# Altium footprint library ERA-6AEB101V.PcbLib: 3 footprints
Each footprint in its own frame and in the unit in brackets; x right, y up, seen from the top. Pads: shape width x height; smd on the part's side, far side on the other; paste and mask are expansions set on the pad; w line width, h text height; cw(c..) or ccw(c..) is an arc to the next point about the centre after c.
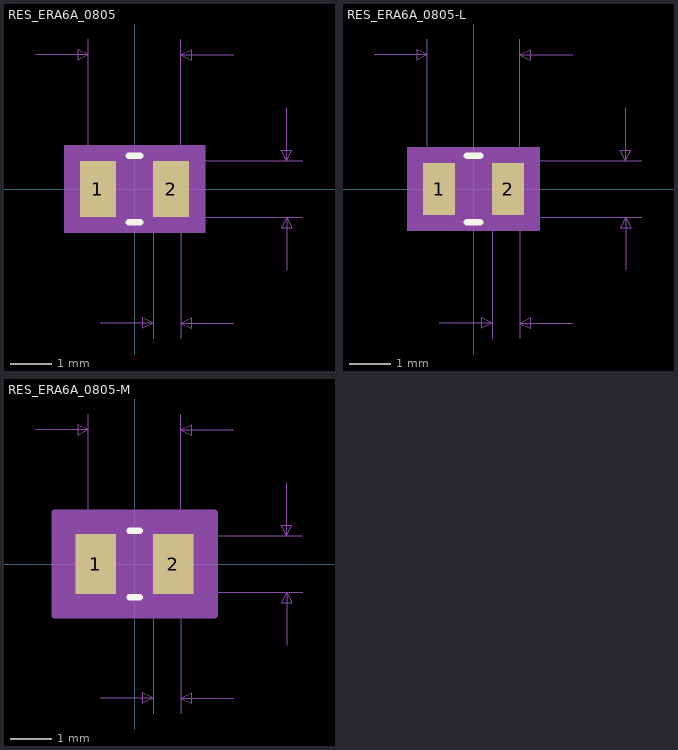
[diagram p0: the footprints below, top view; thin cyan lines are the x and y axes]

## RES_ERA6A_0805 [mil]
pads (2):
  rect 34x53 smd: 1(-34.5,0) 2(34.5,0)
Top Overlay:
  lines w6: -5.39,-31.5 5.39,-31.5 ; -5.39,31.5 5.39,31.5
Mechanical 5:
  region: 66.5,-41.5 -66.5,-41.5 -66.5,41.5 66.5,41.5
Mechanical 7:
  lines w1: -93.5,126.5 -43.5,126.5 ; -43.5,0 -43.5,141.5 ; -32.5,-126.5 17.5,-126.5 ; 0,-26.5 158.5,-26.5 ; 0,26.5 158.5,26.5 ; 17.5,-141.5 17.5,0 ; 43.5,-141.5 43.5,0 43.5,141.5 ; 93.5,-126.5 43.5,-126.5 ; 93.5,126.5 43.5,126.5 ; 143.5,-76.5 143.5,-26.5 ; 143.5,76.5 143.5,26.5 ; -43.5,126.5 -53.5,131.5 -53.5,121.5 -43.5,126.5 ; 17.5,-126.5 7.5,-121.5 7.5,-131.5 17.5,-126.5 ; 43.5,-126.5 53.5,-121.5 53.5,-131.5 43.5,-126.5 ; 43.5,126.5 53.5,131.5 53.5,121.5 43.5,126.5 ; 143.5,-26.5 138.5,-36.5 148.5,-36.5 143.5,-26.5 ; 143.5,26.5 138.5,36.5 148.5,36.5 143.5,26.5
  text "Default Padstyle: RX34Y53D0T" at -350,-296.5 h50
  text "Alt 1 Padstyle: OX60Y90D30P" at -337.5,-356.5 h50
  text "Alt 2 Padstyle: OX90Y60D30P" at -337.5,-416.5 h50
  text "0.053in/1.346mm" at 163.5,-12.5 h25
  text "0.087in/2.21mm" at -87.5,146.5 h25
  text "0.026in/0.66mm" at -57,-171.5 h25
Mechanical 13:
  lines w1: -43.5,-26.5 -43.5,26.5 ; -43.5,-26.5 -17.5,-26.5 -17.5,26.5 -43.5,26.5 ; -43.5,-26.5 43.5,-26.5 ; -43.5,-26.5 -43.5,26.5 ; -43.5,26.5 43.5,26.5 ; 43.5,-26.5 17.5,-26.5 17.5,26.5 43.5,26.5 ; 43.5,-26.5 43.5,26.5 ; 43.5,-26.5 43.5,26.5
Mechanical 15:
  region: 61.5,-36.5 -61.5,-36.5 -61.5,36.5 61.5,36.5
  lines w6: -61.5,-36.5 -61.5,36.5 61.5,36.5 61.5,-36.5 -61.5,-36.5
3D body: height 10, standoff 0, extent 0,0 10,10

## RES_ERA6A_0805-L [mil]
pads (2):
  rect 30x49 smd paste+0 mask+0: 1(-32.5,0) 2(32.5,0)
Top Overlay:
  lines w6: -6.43,-31.5 6.43,-31.5 ; -6.43,31.5 6.43,31.5
Mechanical 5:
  region: 62.5,-39.5 -62.5,-39.5 -62.5,39.5 62.5,39.5
Mechanical 7:
  lines w1: -93.5,126.5 -43.5,126.5 ; -43.5,0 -43.5,141.5 ; -32.5,-126.5 17.5,-126.5 ; 0,-26.5 158.5,-26.5 ; 0,26.5 158.5,26.5 ; 17.5,-141.5 17.5,0 ; 43.5,-141.5 43.5,0 43.5,141.5 ; 93.5,-126.5 43.5,-126.5 ; 93.5,126.5 43.5,126.5 ; 143.5,-76.5 143.5,-26.5 ; 143.5,76.5 143.5,26.5 ; -43.5,126.5 -53.5,131.5 -53.5,121.5 -43.5,126.5 ; 17.5,-126.5 7.5,-121.5 7.5,-131.5 17.5,-126.5 ; 43.5,-126.5 53.5,-121.5 53.5,-131.5 43.5,-126.5 ; 43.5,126.5 53.5,131.5 53.5,121.5 43.5,126.5 ; 143.5,-26.5 138.5,-36.5 148.5,-36.5 143.5,-26.5 ; 143.5,26.5 138.5,36.5 148.5,36.5 143.5,26.5
  text "Default Padstyle: RX30Y49D0T" at -350,-294.5 h50
  text "Alt 1 Padstyle: OX60Y90D30P" at -337.5,-354.5 h50
  text "Alt 2 Padstyle: OX90Y60D30P" at -337.5,-414.5 h50
  text "0.053in/1.346mm" at 163.5,-12.5 h25
  text "0.087in/2.21mm" at -87.5,146.5 h25
  text "0.026in/0.66mm" at -57,-171.5 h25
Mechanical 13:
  lines w1: -43.5,-26.5 -43.5,26.5 ; -43.5,-26.5 -17.5,-26.5 -17.5,26.5 -43.5,26.5 ; -43.5,-26.5 43.5,-26.5 ; -43.5,-26.5 -43.5,26.5 ; -43.5,26.5 43.5,26.5 ; 43.5,-26.5 17.5,-26.5 17.5,26.5 43.5,26.5 ; 43.5,-26.5 43.5,26.5 ; 43.5,-26.5 43.5,26.5
Mechanical 15:
  region: 51.5,-28.5 -51.5,-28.5 -51.5,28.5 51.5,28.5
  lines w6: -51.5,-28.5 -51.5,28.5 51.5,28.5 51.5,-28.5 -51.5,-28.5
3D body: height 10, standoff 0, extent 0,0 10,10

## RES_ERA6A_0805-M [mil]
pads (2):
  rect 38x57 smd paste+0 mask+0: 1(-36.5,0) 2(36.5,0)
Top Overlay:
  lines w6: -4.75,-31.5 4.75,-31.5 ; -4.75,31.5 4.75,31.5
Mechanical 5:
  region: 70.5,-43.5 -70.5,-43.5 -70.5,43.5 70.5,43.5
Mechanical 7:
  lines w1: -93.5,126.5 -43.5,126.5 ; -43.5,0 -43.5,141.5 ; -32.5,-126.5 17.5,-126.5 ; 0,-26.5 158.5,-26.5 ; 0,26.5 158.5,26.5 ; 17.5,-141.5 17.5,0 ; 43.5,-141.5 43.5,0 43.5,141.5 ; 93.5,-126.5 43.5,-126.5 ; 93.5,126.5 43.5,126.5 ; 143.5,-76.5 143.5,-26.5 ; 143.5,76.5 143.5,26.5 ; -43.5,126.5 -53.5,131.5 -53.5,121.5 -43.5,126.5 ; 17.5,-126.5 7.5,-121.5 7.5,-131.5 17.5,-126.5 ; 43.5,-126.5 53.5,-121.5 53.5,-131.5 43.5,-126.5 ; 43.5,126.5 53.5,131.5 53.5,121.5 43.5,126.5 ; 143.5,-26.5 138.5,-36.5 148.5,-36.5 143.5,-26.5 ; 143.5,26.5 138.5,36.5 148.5,36.5 143.5,26.5
  text "Default Padstyle: RX38Y57D0T" at -350,-298.5 h50
  text "Alt 1 Padstyle: OX60Y90D30P" at -337.5,-358.5 h50
  text "Alt 2 Padstyle: OX90Y60D30P" at -337.5,-418.5 h50
  text "0.053in/1.346mm" at 163.5,-12.5 h25
  text "0.087in/2.21mm" at -87.5,146.5 h25
  text "0.026in/0.66mm" at -57,-171.5 h25
Mechanical 13:
  lines w1: -43.5,-26.5 -43.5,26.5 ; -43.5,-26.5 -17.5,-26.5 -17.5,26.5 -43.5,26.5 ; -43.5,-26.5 43.5,-26.5 ; -43.5,-26.5 -43.5,26.5 ; -43.5,26.5 43.5,26.5 ; 43.5,-26.5 17.5,-26.5 17.5,26.5 43.5,26.5 ; 43.5,-26.5 43.5,26.5 ; 43.5,-26.5 43.5,26.5
Mechanical 15:
  region: 75.5,-48.5 -75.5,-48.5 -75.5,48.5 75.5,48.5
  lines w6: -75.5,-48.5 -75.5,48.5 75.5,48.5 75.5,-48.5 -75.5,-48.5
3D body: height 10, standoff 0, extent 0,0 10,10